# EAGLE library part 5530843-FEMALE (library 5530843-6)
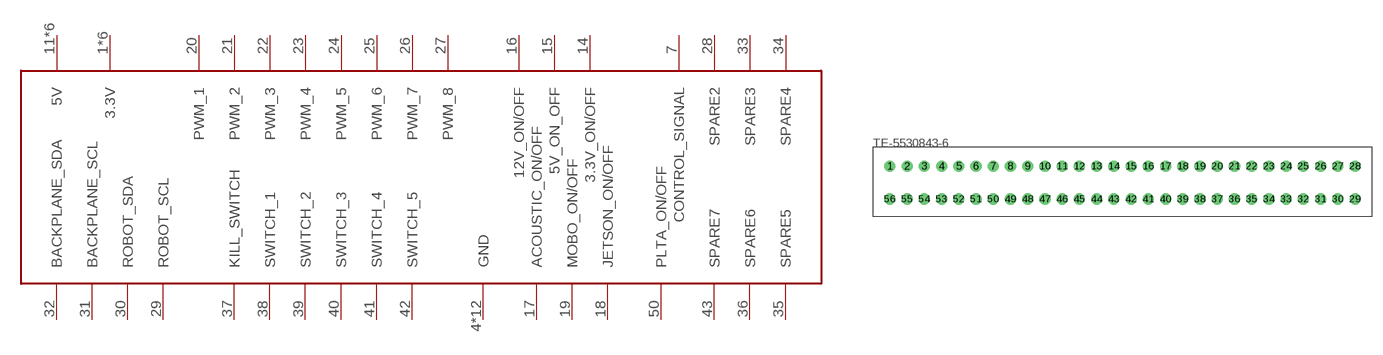
[diagram p1: symbol with the pads of 5530843-6-BACKPLANEMATE; footprint 5530843-6-BACKPLANEMATE]

Designator prefix -

## 5530843-FEMALE  [5530843-6-BACKPLANEMATE]
1  3.3V
2  3.3V
3  3.3V
4  GND
5  GND
6  GND
7  CONTROL_SIGNAL
8  GND
9  GND
10  GND
11  5V
12  5V
13  5V
14  3.3V_ON/OFF
15  5V_ON_OFF
16  12V_ON/OFF
17  ACOUSTIC_ON/OFF
18  JETSON_ON/OFF
19  MOBO_ON/OFF
20  PWM_1
21  PWM_2
22  PWM_3
23  PWM_4
24  PWM_5
25  PWM_6
26  PWM_7
27  PWM_8
28  SPARE2
29  ROBOT_SCL
30  ROBOT_SDA
31  BACKPLANE_SCL
32  BACKPLANE_SDA
33  SPARE3
34  SPARE4
35  SPARE5
36  SPARE6
37  KILL_SWITCH  out
38  SWITCH_1  out
39  SWITCH_2  out
40  SWITCH_3  out
41  SWITCH_4  out
42  SWITCH_5  out
43  SPARE7
44  5V
45  5V
46  5V
47  GND
48  GND
49  GND
50  PLTA_ON/OFF
51  GND
52  GND
53  GND
54  3.3V
55  3.3V
56  3.3V

## Footprint 5530843-6-BACKPLANEMATE (pad centres in mm)
drill 1.092: 1 0,4.851; 2 2.54,4.851; 3 5.08,4.851; 4 7.62,4.851; 5 10.16,4.851; 6 12.7,4.851; 7 15.24,4.851; 8 17.78,4.851; 9 20.32,4.851; 10 22.86,4.851; 11 25.4,4.851; 12 27.94,4.851; 13 30.48,4.851; 14 33.02,4.851; 15 35.56,4.851; 16 38.1,4.851; 17 40.64,4.851; 18 43.18,4.851; 19 45.72,4.851; 20 48.26,4.851; 21 50.8,4.851; 22 53.34,4.851; 23 55.88,4.851; 24 58.42,4.851; 25 60.96,4.851; 26 63.5,4.851; 27 66.04,4.851; 28 68.58,4.851; 29 68.58,0; 30 66.04,0; 31 63.5,0; 32 60.96,0; 33 58.42,0; 34 55.88,0; 35 53.34,0; 36 50.8,0; 37 48.26,0; 38 45.72,0; 39 43.18,0; 40 40.64,0; 41 38.1,0; 42 35.56,0; 43 33.02,0; 44 30.48,0; 45 27.94,0; 46 25.4,0; 47 22.86,0; 48 20.32,0; 49 17.78,0; 50 15.24,0; 51 12.7,0; 52 10.16,0; 53 7.62,0; 54 5.08,0; 55 2.54,0; 56 0,0